# Altium schematic symbol library HW_ADHERENT_LANECTRL_R1.SchLib: 1635 symbols (part 1 of 31)
Pins are listed as number, name and electrical type; pins without a type are passive.

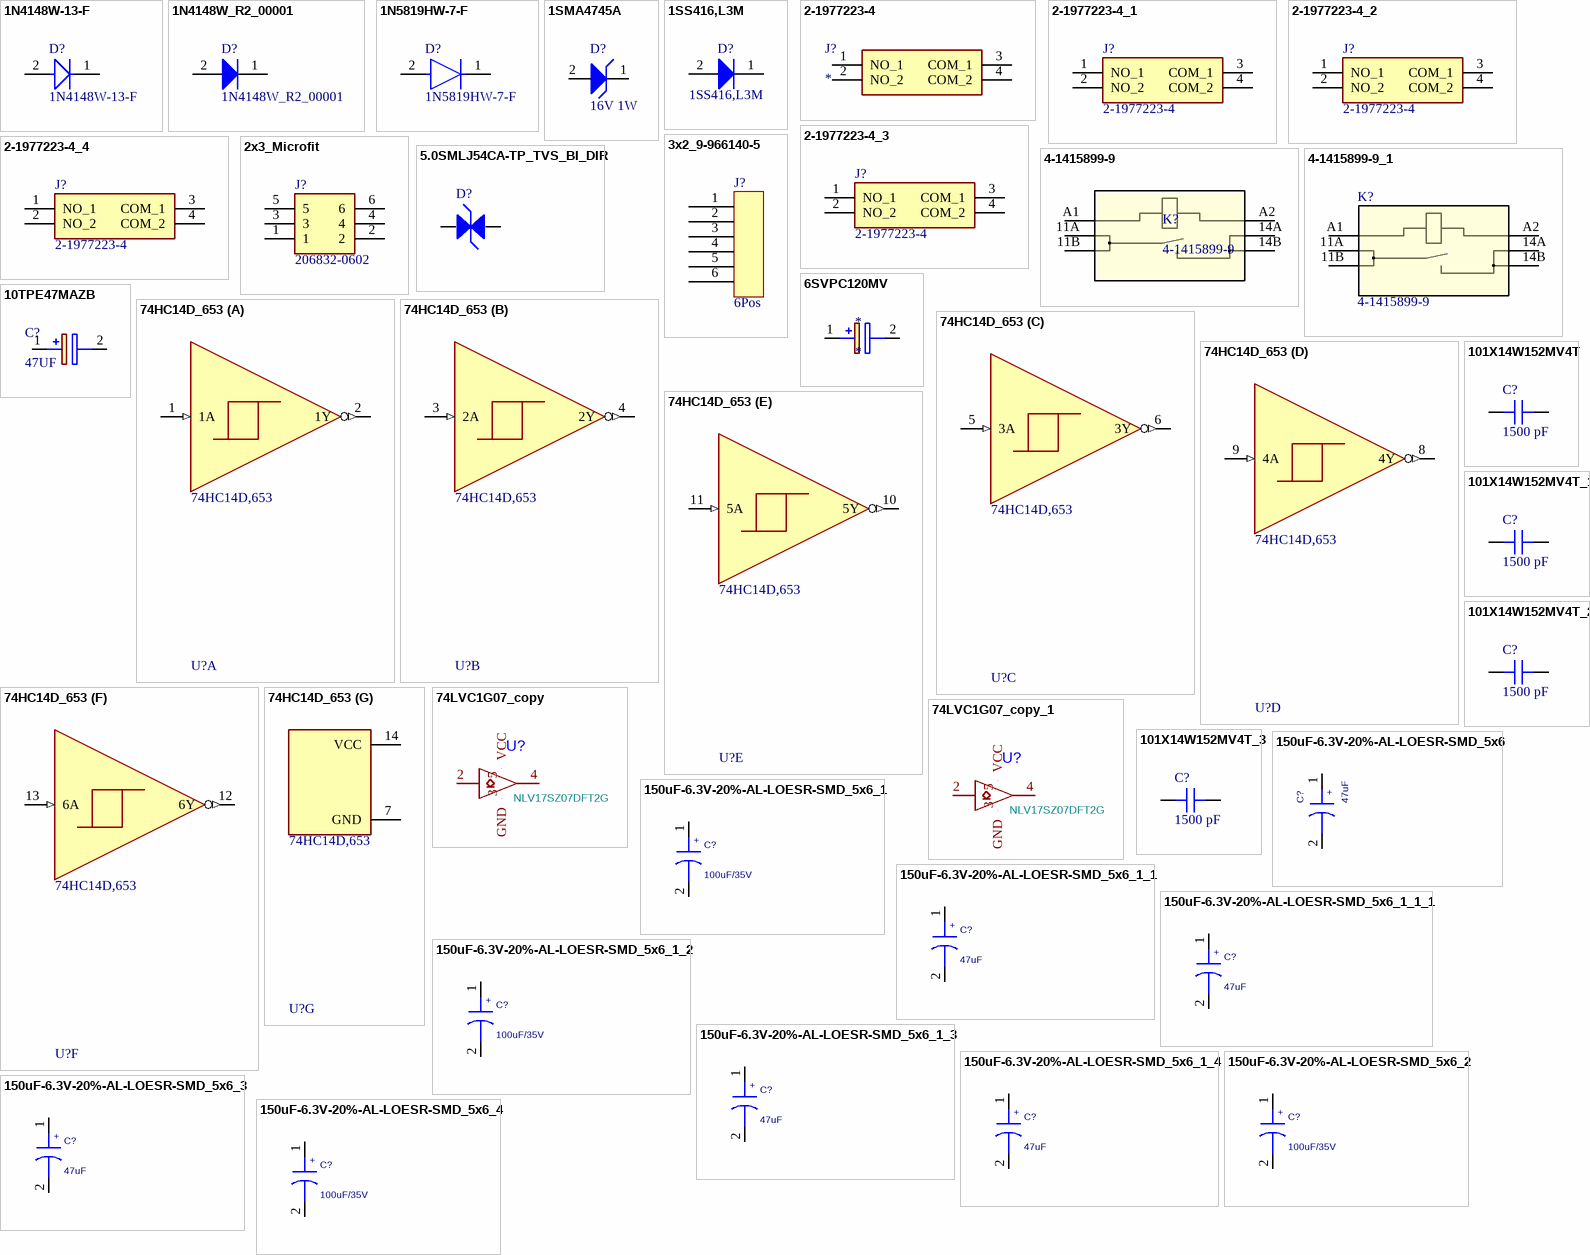
[diagram p0: symbols 1N4148W-13-F to 150uF-6.3V-20%-AL-LOESR-SMD_5x6_4]

## 1N4148W-13-F
designator D?, comment Manufacturer Part Number: 1N4148W-13-F  (hidden comment: DIODE GEN PURP 100V 300MA SOD123)
Diode Standard 100 V 300mA Surface Mount SOD-123; Order Code: Digi: 1N4148W-13FDITR-ND; LCSC Manufacturer Part Number: 1N4148W-13-F; LCSC Part Number: C112342
footprint Diodes_Inc._SOD123_IPC_C
pins: 1 C, 2 A

## 1N4148W_R2_00001
designator D?, comment Manufacturer Part Number: 1N4148W_R2_00001  (hidden comment: Diode 75 V 200mA Surface Mount SOD-123)
footprint SOD-123_L2.8-W1.8-LS3.7-RD
pins: 1 K, 2 A

## 1N5819HW-7-F
designator D?, comment Manufacturer Part Number: 1N5819HW-7-F  (hidden comment: DIODE SCHOTTKY 40V 1A SOD123)
Diode 40 V 1A Surface Mount SOD-123; Order Code: Digi: 1N5819HW-FDITR-ND; LCSC Manufacturer Part Number: 1N5819HW-7-F; LCSC Part Number: C82544
footprint Diodes_SOD123_IPC_A
footprint Diodes_SOD123_IPC_B
footprint Diodes_SOD123_IPC_C
footprint Diodes_SOD123_MFG
pins: 1 C, 2 A

## 1SMA4745A
designator D?, comment Voltage: 16V 1W  (hidden comment: ±5% Single 15.2V~16.8V 1W 16V SMA(DO-214AC) Zener Diodes ROHS)
Manufacturer Part Number: 1SMA4745A; Order Code: LCSC: C362282; LCSC Manufacturer Part Number: 1SMA4745A; LCSC Part Number: C362282
footprint DIOM5226X230N
pins: 1 K, 2 A

## 1SS416,L3M
designator D?
Diode 30 V 100mA Surface Mount SOD-923; LCSC Manufacturer Part Number: 1SS416,L3M(B; Order Code: Digi: 1SS416L3MTR-ND; LCSC Part Number: C2943683; Manufacturer Part Number: 1SS416,L3M
footprint SOD-923-2 (SOD, 2-Leads, Body 0.8x0.6mm)
pins: 1 K, 2 A

## 2-1977223-4
designator J?
Connector; Manufacturer_Name: TE Connectivity; Manufacturer_Part_Number: 2-1977223-4; Datasheet Link: https://www.mouser.pl/datasheet/2/418/8/ENG_CD_1977223_B2-757245.pdf; Height: 9.85mm; Mouser Part Number: 506-2-1977223-4; Mouser Price/Stock: https://www.mouser.co.uk/ProductDetail/TE-Connectivity-Alcoswitch/2-1977223-4?qs=WwRK9Mn48WApgvYrqfKzDA%3D%3D; Arrow Part Number: 2-1977223-4; Arrow Price/Stock: https://www.arrow.com/en/products/2-1977223-4/te-connectivity?region=europe
footprint 219772234
pins: 1 NO_1, 2 NO_2, 3 COM_1, 4 COM_2

## 2-1977223-4_1
designator J?, comment 2-1977223-4
Connector; Manufacturer_Name: TE Connectivity; Datasheet Link: https://www.mouser.pl/datasheet/2/418/8/ENG_CD_1977223_B2-757245.pdf; Height: 9.85mm; Manufacturer_Part_Number: 2-1977223-4; Mouser Part Number: 506-2-1977223-4; Mouser Price/Stock: https://www.mouser.co.uk/ProductDetail/TE-Connectivity-Alcoswitch/2-1977223-4?qs=WwRK9Mn48WApgvYrqfKzDA%3D%3D; Arrow Part Number: 2-1977223-4; Arrow Price/Stock: https://www.arrow.com/en/products/2-1977223-4/te-connectivity?region=europe
footprint 219772234
pins: 1 NO_1, 2 NO_2, 3 COM_1, 4 COM_2

## 2-1977223-4_2
designator J?, comment 2-1977223-4
Connector; Manufacturer_Name: TE Connectivity; Datasheet Link: https://www.mouser.pl/datasheet/2/418/8/ENG_CD_1977223_B2-757245.pdf; Height: 9.85mm; Manufacturer_Part_Number: 2-1977223-4; Mouser Part Number: 506-2-1977223-4; Mouser Price/Stock: https://www.mouser.co.uk/ProductDetail/TE-Connectivity-Alcoswitch/2-1977223-4?qs=WwRK9Mn48WApgvYrqfKzDA%3D%3D; Arrow Part Number: 2-1977223-4; Arrow Price/Stock: https://www.arrow.com/en/products/2-1977223-4/te-connectivity?region=europe
footprint 219772234
pins: 1 NO_1, 2 NO_2, 3 COM_1, 4 COM_2

## 2-1977223-4_3
designator J?, comment 2-1977223-4
Connector; Manufacturer_Name: TE Connectivity; Datasheet Link: https://www.mouser.pl/datasheet/2/418/8/ENG_CD_1977223_B2-757245.pdf; Height: 9.85mm; Manufacturer_Part_Number: 2-1977223-4; Mouser Part Number: 506-2-1977223-4; Mouser Price/Stock: https://www.mouser.co.uk/ProductDetail/TE-Connectivity-Alcoswitch/2-1977223-4?qs=WwRK9Mn48WApgvYrqfKzDA%3D%3D; Arrow Part Number: 2-1977223-4; Arrow Price/Stock: https://www.arrow.com/en/products/2-1977223-4/te-connectivity?region=europe
footprint 219772234
pins: 1 NO_1, 2 NO_2, 3 COM_1, 4 COM_2

## 2-1977223-4_4
designator J?, comment 2-1977223-4
Connector; Manufacturer_Name: TE Connectivity; Datasheet Link: https://www.mouser.pl/datasheet/2/418/8/ENG_CD_1977223_B2-757245.pdf; Height: 9.85mm; Manufacturer_Part_Number: 2-1977223-4; Mouser Part Number: 506-2-1977223-4; Mouser Price/Stock: https://www.mouser.co.uk/ProductDetail/TE-Connectivity-Alcoswitch/2-1977223-4?qs=WwRK9Mn48WApgvYrqfKzDA%3D%3D; Arrow Part Number: 2-1977223-4; Arrow Price/Stock: https://www.arrow.com/en/products/2-1977223-4/te-connectivity?region=europe
footprint 219772234
pins: 1 NO_1, 2 NO_2, 3 COM_1, 4 COM_2

## 2x3_Microfit
designator J?, comment 206832-0602
Headers & Wire Housings Micro-Fit+ Vert HDR 2X3 15AU; Manufacturer_Name: Molex; Geometry.Height: 10.16mm; Manufacturer Part Number: 206832-0602; Mouser Part Number: 538-206832-0602; Mouser Price/Stock: https://www.mouser.co.uk/ProductDetail/Molex/206832-0602?qs=OlC7AqGiEDlD1QNT%2FeqMtg%3D%3D; Arrow Part Number: *; Arrow Price/Stock: *; Datasheet Link: https://www.mouser.com/datasheet/2/276/2/2068320602_PCB_HEADERS-1912549.pdf
footprint 2068320602
pins: 1, 2, 3, 4, 5, 6

## 3x2_9-966140-5
designator J?, comment 6Pos
CONN HEADER R/A 6POS 5MM; P/N: 9-966140-5; Order Code: DIGI : A141422-ND; Value: 6Pos
footprint 9-966140-5
pins: 1, 2, 3, 4, 5, 6

## 4-1415899-9
designator K?
General Purpose Relay SPST-NO (1 Form A) 12VDC Coil Through Hole; Mfr_Name: TE Connectivity; RefDes: RefDes; Type: Type
footprint RELAY5_4-1415899-9_TEC
pins: 11A, 11B, 14A, 14B, A1, A2

## 4-1415899-9_1
designator K?, comment 4-1415899-9
General Purpose Relay SPST-NO (1 Form A) 12VDC Coil Through Hole; Mfr_Name: TE Connectivity; RefDes: RefDes; Type: Type
footprint RELAY5_4-1415899-9_TEC
pins: 11A, 11B, 14A, 14B, A1, A2

## 5.0SMLJ54CA-TP_TVS_BI_DIR
designator D?
TVS DIODE 54VWM 87.1VC SMC; P/N: 5.0SMLJ54CA-TP; Order Code: DIGI : 5.0SMLJ54CA-TPMSCT-ND
footprint DO214AB
pins: 1, 2

## 6SVPC120MV
designator *
Cap Aluminum Polymer 120uF 6.3VDC 20%( 5 X 5.9mm) SMD 0.021 Ohm 2660mA 2000h 105C T/R; Manufacturer: Panasonic; Manufacturer Part Number: 6SVPC120MV; Supplier 1: Digikey; RoHS: Yes; Category: Polymer Capacitors; Stock 1: 1500; Pricing 1: 1500=0.34245, 3000=0.32036, 4500=0.30379, 10500=0.29274, 15000=0.28788 (USD); Material: 4242ConductorMaterial; ComponentLink1URL: https://datasheet.ciiva.com/25767/1734358-25767646.pdf?src-supplier=Farnell; ComponentLink1Description: https://datasheet.ciiva.com/25767/1734358-25767646.pdf?src-supplier=Farnell; ComponentLink2URL: https://datasheet.ciiva.com/22746/1734358-22746299.pdf?src-supplier=Element14; ComponentLink2Description: https://datasheet.ciiva.com/22746/1734358-22746299.pdf?src-supplier=Element14; Supplier Part Number 1: P16608TR-ND
footprint 16SVF82M
pins: 1 +, 2 -

## 10TPE47MAZB
designator C?, comment 47UF
47 µF Molded Tantalum Polymer Capacitor 10 V 1411 (3528 Metric) 35mOhm @ 100kHz; Manufacturer_Name: Panasonic; Manufacturer_Part_Number: 10TPE47MAZB; Datasheet Link: http://industrial.panasonic.com/cdbs/www-data/pdf/AAA8000/AAA8000C36.pdf; Mouser Part Number: 667-10TPE47MAZB; Mouser Price/Stock: https://www.mouser.co.uk/ProductDetail/Panasonic/10TPE47MAZB?qs=OE1iw1LrrPFA5jtx2CbXHA%3D%3D; Arrow Part Number: 10TPE47MAZB; Arrow Price/Stock: https://www.arrow.com/en/products/10tpe47mazb/panasonic?utm_currency=USD&region=nac
footprint 16TDC33MYFB
pins: 1 +, 2 -

## 74HC14D_653
designator U?, comment Manufacturer Part Number: 74HC14D,653  (hidden comment: 6 21ns@6V,50pF 2uA 2V~6V SOIC-14 Inverters ROHS)
LCSC Part Number: C5605
footprint Nexperia_SOT108-1_IPC_C
part A pins: 1 1A (in), 2 1Y (out)
part B pins: 3 2A (in), 4 2Y (out)
part C pins: 5 3A (in), 6 3Y (out)
part D pins: 8 4Y (out), 9 4A (in)
part E pins: 10 5Y (out), 11 5A (in)
part F pins: 12 6Y (out), 13 6A (in)
part G pins: 7 GND (power), 14 VCC (power)

## 74LVC1G07_copy
designator U?, comment NLV17SZ07DFT2G
IC BUFFER NON-INVERT 5.5V SC88A; Manufacturer: onsemi; Footprint: Package_TO_SOT_SMD:SOT-353_SC-70-5; Manufacturer Part Number: NLV17SZ07DFT2G; Supplier Part Number: NLV17SZ07DFT2GOSCT-ND; Value: NLV17SZ07DFT2G
footprint SOT-353 (Footprint not found)
pins: 2, 3 GND, 4, 5 VCC

## 74LVC1G07_copy_1
designator U?, comment NLV17SZ07DFT2G
IC BUFFER NON-INVERT 5.5V SC88A; Manufacturer: onsemi; Footprint: Package_TO_SOT_SMD:SOT-353_SC-70-5; Manufacturer Part Number: NLV17SZ07DFT2G; Supplier Part Number: NLV17SZ07DFT2GOSCT-ND; Value: NLV17SZ07DFT2G
footprint SOT-353 (Footprint not found)
pins: 2, 3 GND, 4, 5 VCC

## 101X14W152MV4T
designator C?, comment 1500 pF
CAP CER 1500PF 100V X7R 0603; Part Number: 101X14W152MV4T; manufacturer: Johanson Dielectrics Inc.; Tolerance: ±20%; Applications: Bypass, Decoupling; Capacitance: 1500 pF; componentlink1description: Datasheet; componentlink1url: https://www.johansondielectrics.com/downloads/x2y-filter-and-decoupling-capacitors.pdf; componentlink2description: DigiKey Link; componentlink2url: https://www.digikey.com/en/products/detail/johanson-dielectrics-inc/101X14W152MV4T/2046908; Device Package: 0603 (1608 Metric); Features: Low ESL (X2Y); lastupdated: 2/9/2024 8:10:14 PM; Lifecycle Status: Active; Minimum Order: 1; Mounting Type: Surface Mount, MLCC; Operating Temperature: -55°C ~ 125°C; Package / Case: 0603 (1608 Metric); packaging: TapeAndReel; partid: 14409; Part Status: Active; price: 0.05; series: X2Y®; Size / Dimension: 0.064" L x 0.035" W (1.63mm x 0.89mm); Supplier 1: DigiKey; Supplier Part Number 1: 709-1205-1-ND; Temperature Coefficient: X7R; Thickness (Max): 0.026" (0.66mm); Voltage - Rated: 100V; Value: 1500 pF
footprint CAP 0603_1608
pins: 1, 2

## 101X14W152MV4T_1
designator C?, comment 1500 pF
CAP CER 1500PF 100V X7R 0603; Part Number: 101X14W152MV4T; manufacturer: Johanson Dielectrics Inc.; Tolerance: ±20%; Applications: Bypass, Decoupling; Capacitance: 1500 pF; componentlink1description: Datasheet; componentlink1url: https://www.johansondielectrics.com/downloads/x2y-filter-and-decoupling-capacitors.pdf; componentlink2description: DigiKey Link; componentlink2url: https://www.digikey.com/en/products/detail/johanson-dielectrics-inc/101X14W152MV4T/2046908; Device Package: 0603 (1608 Metric); Features: Low ESL (X2Y); lastupdated: 2/9/2024 8:10:14 PM; Lifecycle Status: Active; Minimum Order: 1; Mounting Type: Surface Mount, MLCC; Operating Temperature: -55°C ~ 125°C; Package / Case: 0603 (1608 Metric); packaging: TapeAndReel; partid: 14409; Part Status: Active; price: 0.05; series: X2Y®; Size / Dimension: 0.064" L x 0.035" W (1.63mm x 0.89mm); Supplier 1: DigiKey; Supplier Part Number 1: 709-1205-1-ND; Temperature Coefficient: X7R; Thickness (Max): 0.026" (0.66mm); Voltage - Rated: 100V; Value: 1500 pF
footprint CAP 0603_1608
pins: 1, 2

## 101X14W152MV4T_2
designator C?, comment 1500 pF
CAP CER 1500PF 100V X7R 0603; Part Number: 101X14W152MV4T; manufacturer: Johanson Dielectrics Inc.; Tolerance: ±20%; Applications: Bypass, Decoupling; Capacitance: 1500 pF; componentlink1description: Datasheet; componentlink1url: https://www.johansondielectrics.com/downloads/x2y-filter-and-decoupling-capacitors.pdf; componentlink2description: DigiKey Link; componentlink2url: https://www.digikey.com/en/products/detail/johanson-dielectrics-inc/101X14W152MV4T/2046908; Device Package: 0603 (1608 Metric); Features: Low ESL (X2Y); lastupdated: 2/9/2024 8:10:14 PM; Lifecycle Status: Active; Minimum Order: 1; Mounting Type: Surface Mount, MLCC; Operating Temperature: -55°C ~ 125°C; Package / Case: 0603 (1608 Metric); packaging: TapeAndReel; partid: 14409; Part Status: Active; price: 0.05; series: X2Y®; Size / Dimension: 0.064" L x 0.035" W (1.63mm x 0.89mm); Supplier 1: DigiKey; Supplier Part Number 1: 709-1205-1-ND; Temperature Coefficient: X7R; Thickness (Max): 0.026" (0.66mm); Voltage - Rated: 100V; Value: 1500 pF
footprint CAP 0603_1608
pins: 1, 2

## 101X14W152MV4T_3
designator C?, comment 1500 pF
CAP CER 1500PF 100V X7R 0603; Part Number: 101X14W152MV4T; manufacturer: Johanson Dielectrics Inc.; Tolerance: ±20%; Applications: Bypass, Decoupling; Capacitance: 1500 pF; componentlink1description: Datasheet; componentlink1url: https://www.johansondielectrics.com/downloads/x2y-filter-and-decoupling-capacitors.pdf; componentlink2description: DigiKey Link; componentlink2url: https://www.digikey.com/en/products/detail/johanson-dielectrics-inc/101X14W152MV4T/2046908; Device Package: 0603 (1608 Metric); Features: Low ESL (X2Y); lastupdated: 2/9/2024 8:10:14 PM; Lifecycle Status: Active; Minimum Order: 1; Mounting Type: Surface Mount, MLCC; Operating Temperature: -55°C ~ 125°C; Package / Case: 0603 (1608 Metric); packaging: TapeAndReel; partid: 14409; Part Status: Active; price: 0.05; series: X2Y®; Size / Dimension: 0.064" L x 0.035" W (1.63mm x 0.89mm); Supplier 1: DigiKey; Supplier Part Number 1: 709-1205-1-ND; Temperature Coefficient: X7R; Thickness (Max): 0.026" (0.66mm); Voltage - Rated: 100V; Value: 1500 pF
footprint CAP 0603_1608
pins: 1, 2

## 150uF-6.3V-20%-AL-LOESR-SMD_5x6
designator C?, comment 47uF
CAP ALUM 47UF 20% 50V SMD; Manufacturer: Panasonic Electronic Components; Manufacturer Part Number: EEE-FK1H470XP; Value: 47uF; Supplier Part Number: PCE3816CT-ND
footprint SMD 6.6x6.6x8.0mm
pins: 1, 2
text: +

## 150uF-6.3V-20%-AL-LOESR-SMD_5x6_1
designator C?, comment 100uF/35V
CAP ALUM POLY 100UF 20% 50V SMD; Manufacturer: Nichicon; Manufacturer Part Number: PCV1H101MCL2GS; Value: 100uF; Supplier Part Number: 493-4558-1-ND
footprint SMD 10.3x10.3x10.0mm (PN: UUX2A470MNL1GS)
pins: 1, 2
text: +

## 150uF-6.3V-20%-AL-LOESR-SMD_5x6_1_1
designator C?, comment 47uF
CAP ALUM 47UF 20% 50V SMD; Manufacturer: Panasonic Electronic Components; Manufacturer Part Number: EEE-FK1H470XP; Value: 47uF; Supplier Part Number: PCE3816CT-ND
footprint SMD 6.6x6.6x8.0mm
pins: 1, 2
text: +

## 150uF-6.3V-20%-AL-LOESR-SMD_5x6_1_1_1
designator C?, comment 47uF
CAP ALUM 47UF 20% 50V SMD; Manufacturer: Panasonic Electronic Components; Manufacturer Part Number: EEE-FK1H470XP; Value: 47uF; Supplier Part Number: PCE3816CT-ND
footprint SMD 6.6x6.6x8.0mm
pins: 1, 2
text: +

## 150uF-6.3V-20%-AL-LOESR-SMD_5x6_1_2
designator C?, comment 100uF/35V
CAP ALUM POLY 100UF 20% 50V SMD; Manufacturer: Nichicon; Manufacturer Part Number: PCV1H101MCL2GS; Value: 100uF; Supplier Part Number: 493-4558-1-ND
footprint SMD 10.3x10.3x10.0mm (PN: UUX2A470MNL1GS)
pins: 1, 2
text: +

## 150uF-6.3V-20%-AL-LOESR-SMD_5x6_1_3
designator C?, comment 47uF
CAP ALUM 47UF 20% 50V SMD; Manufacturer: Panasonic Electronic Components; Manufacturer Part Number: EEE-FK1H470XP; Value: 47uF; Supplier Part Number: PCE3816CT-ND
footprint SMD 6.6x6.6x8.0mm
pins: 1, 2
text: +

## 150uF-6.3V-20%-AL-LOESR-SMD_5x6_1_4
designator C?, comment 47uF
CAP ALUM 47UF 20% 50V SMD; Manufacturer: Panasonic Electronic Components; Manufacturer Part Number: EEE-FK1H470XP; Value: 47uF; Supplier Part Number: PCE3816CT-ND
footprint SMD 6.6x6.6x8.0mm
pins: 1, 2
text: +

## 150uF-6.3V-20%-AL-LOESR-SMD_5x6_2
designator C?, comment 100uF/35V
CAP ALUM POLY 100UF 20% 50V SMD; Manufacturer: Nichicon; Manufacturer Part Number: PCV1H101MCL2GS; Value: 100uF; Supplier Part Number: 493-4558-1-ND
footprint SMD 10.3x10.3x10.0mm (PN: UUX2A470MNL1GS)
pins: 1, 2
text: +

## 150uF-6.3V-20%-AL-LOESR-SMD_5x6_3
designator C?, comment 47uF
CAP ALUM 47UF 20% 50V SMD; Manufacturer: Panasonic Electronic Components; Manufacturer Part Number: EEE-FK1H470XP; Value: 47uF; Supplier Part Number: PCE3816CT-ND
footprint SMD 6.6x6.6x8.0mm
pins: 1, 2
text: +

## 150uF-6.3V-20%-AL-LOESR-SMD_5x6_4
designator C?, comment 100uF/35V
CAP ALUM POLY 100UF 20% 50V SMD; Manufacturer: Nichicon; Manufacturer Part Number: PCV1H101MCL2GS; Value: 100uF; Supplier Part Number: 493-4558-1-ND
footprint SMD 10.3x10.3x10.0mm (PN: UUX2A470MNL1GS)
pins: 1, 2
text: +

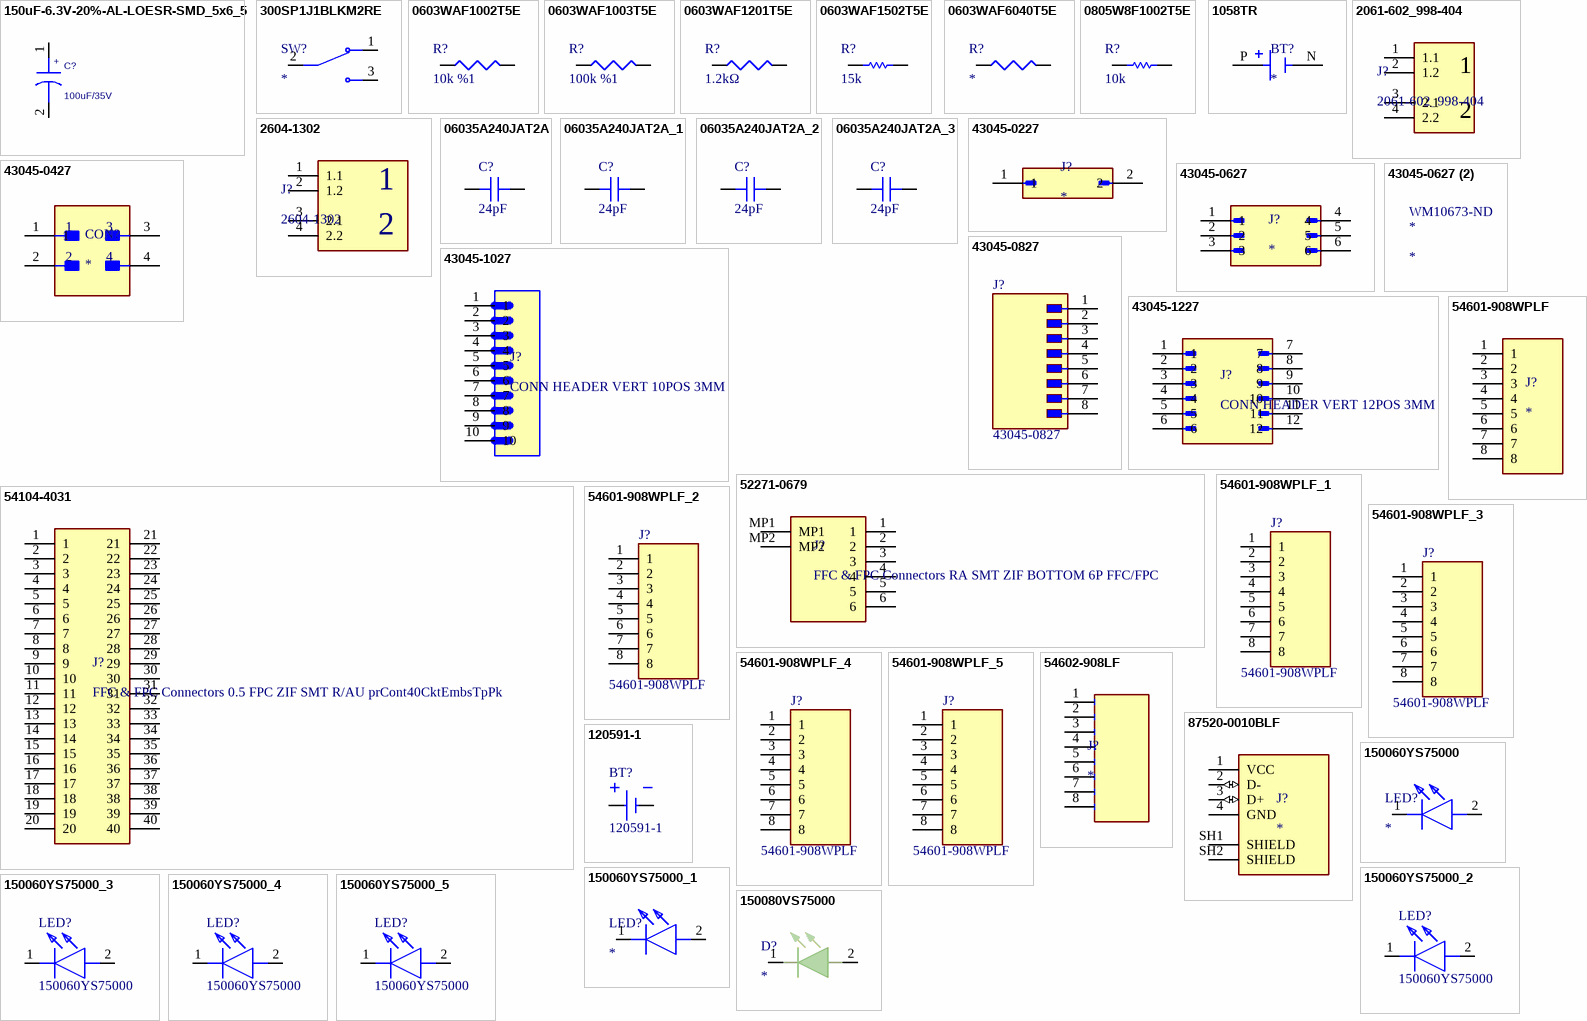
[diagram p1: symbols 150uF-6.3V-20%-AL-LOESR-SMD_5x6_5 to 150080VS75000]

## 150uF-6.3V-20%-AL-LOESR-SMD_5x6_5
designator C?, comment 100uF/35V
CAP ALUM POLY 100UF 20% 50V SMD; Manufacturer: Nichicon; Manufacturer Part Number: PCV1H101MCL2GS; Value: 100uF; Supplier Part Number: 493-4558-1-ND
footprint SMD 10.3x10.3x10.0mm (PN: UUX2A470MNL1GS)
pins: 1, 2
text: +

## 300SP1J1BLKM2RE
designator SW?
Rocker Switch SPDT 0.4VA (AC/DC) 20 V Through Hole; MPN: 300SP1J1BLKM2RE; Manufacturer: E-Switch; Supplier: Dıgı; EG4312-ND
footprint SW_300SP1J1BLKM2QE
footprint sw_300SP1J1BLKM2RE_
pins: 1, 2, 3

## 0603WAF1002T5E
designator R?, comment 10k %1
Thick Film Resistors - SMD 0603 100 mW (1/10 W) 1% 10K; Manufacturer: UNI-ROYAL(Uniroyal Elec); Supplier_JLCPCB: C25804; Supplier_MOUSER: 303-0603WAF1002T5E
footprint RESIS_0603
pins: 1, 2

## 0603WAF1003T5E
designator R?, comment 100k %1
-55℃~+155℃ 100kΩ 100mW 75V Thick Film Resistor ±1% ±100ppm/℃ 0603 Chip Resistor - Surface Mount ROHS; Manufacturer: UNI-ROYAL(Uniroyal Elec); Supplier_JLCPCB: C25803; Supplier_MOUSER: 303-0603WAF1003T5E
footprint RESIS_0603
pins: 1, 2

## 0603WAF1201T5E
designator R?, comment 1.2kΩ
-55℃~+155℃ 1.2kΩ 100mW 75V Thick Film Resistor ±1% ±100ppm/℃ 0603 Chip Resistor - Surface Mount ROHS; Manifacturer: UNI-ROYAL(Uniroyal Elec); JLCPCB PART#: C22765
footprint RES0603
pins: 1, 2

## 0603WAF1502T5E
designator R?, comment 15k
-55℃~+155℃ 100mW 15kΩ 75V Thick Film Resistor ±1% ±100ppm/℃ 0603 Chip Resistor - Surface Mount ROHS; Manufacturer: UNI-ROYAL(Uniroyal Elec); JLCPCB PART 3: C22809; Mouser Part Number: 303-0603WAF1502T5E
footprint RESIS_0603
pins: 1, 2

## 0603WAF6040T5E
designator R?
-55℃~+155℃ 100mW 604Ω 75V Thick Film Resistor ±1% ±100ppm/℃ 0603 Chip Resistor - Surface Mount ROHS
footprint RES0603
pins: 1, 2

## 0805W8F1002T5E
designator R?, comment 10k
-55℃~+155℃ 10kΩ 125mW 150V Thick Film Resistor ±1% ±100ppm/℃ 0805 Chip Resistor - Surface Mount ROHS; Manufacturer: UNI-ROYAL(Uniroyal Elec); JLCPCB PART#: C17414
footprint RES0805
pins: 1, 2

## 1058TR
designator BT?
MP: 1058TR; Package: None; Value: *; Price: None; Availability: Unavailable
footprint BAT_1058TR
pins: N NEG, P POS

## 2061-602_998-404
designator J?
SMD PCB TERMINAL BLOCK PUSH-BUTT; Manufacturer_Name: Wago; Manufacturer_Part_Number: 2061-602/998-404; Datasheet Link: https://www.wago.com/2061-602/998-404; Height: 5.6mm; Arrow Part Number: 2061-602/998-404; Arrow Price/Stock: https://www.arrow.com/en/products/2061-602998-404/wago-kontakttechnik-gmbh?utm_currency=USD&region=europe
footprint 2061602998404
pins: 1 1.1, 2 1.2, 3 2.1, 4 2.2

## 2604-1302
designator J?
2 Position Wire to Board Terminal Block Horizontal with Board 0.295" (7.50mm) Through Hole; Manufacturer_Name: Wago; Datasheet Link: https://wago.priintcloud.com/datasheets/2604-1302/en/b87bf34972496b0cc9989b5aee7282f1?attempt=1&signature=a98fe1495a23e3ec8acce2ba9ddca9e4_1h3rab99m; Manufacturer_Part_Number: 2604-1302; Arrow Part Number: 2604-1302; Arrow Price/Stock: https://www.arrow.com/en/products/2604-1302/wago-kontakttechnik-gmbh?utm_currency=USD&region=nac
footprint 26041302
pins: 1 1.1, 2 1.2, 3 2.1, 4 2.2

## 06035A240JAT2A
designator C?, comment 24pF
CAP CER 24PF 50V NP0 0603; Part Number: 06035A240JAT2A; manufacturer: AVX Corporation; Temperature Coefficient: C0G, NP0; Tolerance: ±5%; Applications: General Purpose; Capacitance: 24pF; componentlink1description: Datasheet; componentlink1url: http://datasheets.avx.com/C0GNP0-Dielectric.pdf; componentlink2description: DigiKey Link; componentlink2url: http://digikey.com/product-detail/en/avx-corporation/06035A240JAT2A/478-10304-1-ND/6797462; Device Package: 0603 (1608 Metric); lastupdated: 9/2/2020 1:03:04 AM; Lifecycle Status: Active; Minimum Order: 1; Mounting Type: Surface Mount, MLCC; Operating Temperature: -55°C ~ 125°C; Package / Case: 0603 (1608 Metric); packaging: TapeAndReel; partid: 17178; Part Status: Active; price: 0.02; series: -; Size / Dimension: 0.063" L x 0.032" W (1.60mm x 0.81mm); Supplier 1: DigiKey; Supplier Part Number 1: 478-10304-1-ND; Thickness (Max): 0.035" (0.90mm); Voltage - Rated: 50V; Value: 24pF
footprint CAP 0603_1608
pins: 1, 2

## 06035A240JAT2A_1
designator C?, comment 24pF
CAP CER 24PF 50V NP0 0603; Part Number: 06035A240JAT2A; manufacturer: AVX Corporation; Temperature Coefficient: C0G, NP0; Tolerance: ±5%; Applications: General Purpose; Capacitance: 24pF; componentlink1description: Datasheet; componentlink1url: http://datasheets.avx.com/C0GNP0-Dielectric.pdf; componentlink2description: DigiKey Link; componentlink2url: http://digikey.com/product-detail/en/avx-corporation/06035A240JAT2A/478-10304-1-ND/6797462; Device Package: 0603 (1608 Metric); lastupdated: 9/2/2020 1:03:04 AM; Lifecycle Status: Active; Minimum Order: 1; Mounting Type: Surface Mount, MLCC; Operating Temperature: -55°C ~ 125°C; Package / Case: 0603 (1608 Metric); packaging: TapeAndReel; partid: 17178; Part Status: Active; price: 0.02; series: -; Size / Dimension: 0.063" L x 0.032" W (1.60mm x 0.81mm); Supplier 1: DigiKey; Supplier Part Number 1: 478-10304-1-ND; Thickness (Max): 0.035" (0.90mm); Voltage - Rated: 50V; Value: 24pF
footprint CAP 0603_1608
pins: 1, 2

## 06035A240JAT2A_2
designator C?, comment 24pF
CAP CER 24PF 50V NP0 0603; Part Number: 06035A240JAT2A; manufacturer: AVX Corporation; Temperature Coefficient: C0G, NP0; Tolerance: ±5%; Applications: General Purpose; Capacitance: 24pF; componentlink1description: Datasheet; componentlink1url: http://datasheets.avx.com/C0GNP0-Dielectric.pdf; componentlink2description: DigiKey Link; componentlink2url: http://digikey.com/product-detail/en/avx-corporation/06035A240JAT2A/478-10304-1-ND/6797462; Device Package: 0603 (1608 Metric); lastupdated: 9/2/2020 1:03:04 AM; Lifecycle Status: Active; Minimum Order: 1; Mounting Type: Surface Mount, MLCC; Operating Temperature: -55°C ~ 125°C; Package / Case: 0603 (1608 Metric); packaging: TapeAndReel; partid: 17178; Part Status: Active; price: 0.02; series: -; Size / Dimension: 0.063" L x 0.032" W (1.60mm x 0.81mm); Supplier 1: DigiKey; Supplier Part Number 1: 478-10304-1-ND; Thickness (Max): 0.035" (0.90mm); Voltage - Rated: 50V; Value: 24pF
footprint CAP 0603_1608
pins: 1, 2

## 06035A240JAT2A_3
designator C?, comment 24pF
CAP CER 24PF 50V NP0 0603; Part Number: 06035A240JAT2A; manufacturer: AVX Corporation; Temperature Coefficient: C0G, NP0; Tolerance: ±5%; Applications: General Purpose; Capacitance: 24pF; componentlink1description: Datasheet; componentlink1url: http://datasheets.avx.com/C0GNP0-Dielectric.pdf; componentlink2description: DigiKey Link; componentlink2url: http://digikey.com/product-detail/en/avx-corporation/06035A240JAT2A/478-10304-1-ND/6797462; Device Package: 0603 (1608 Metric); lastupdated: 9/2/2020 1:03:04 AM; Lifecycle Status: Active; Minimum Order: 1; Mounting Type: Surface Mount, MLCC; Operating Temperature: -55°C ~ 125°C; Package / Case: 0603 (1608 Metric); packaging: TapeAndReel; partid: 17178; Part Status: Active; price: 0.02; series: -; Size / Dimension: 0.063" L x 0.032" W (1.60mm x 0.81mm); Supplier 1: DigiKey; Supplier Part Number 1: 478-10304-1-ND; Thickness (Max): 0.035" (0.90mm); Voltage - Rated: 50V; Value: 24pF
footprint CAP 0603_1608
pins: 1, 2

## 43045-0227
designator J?
Conn Wire to Board HDR 2Power POS Solder ST Top Entry Thru-Hole Micro-Fit 3.0 Tray; Manufacturer: Molex; Manufacturer Part Number: 43045-0227; Number of Positions: 2; Gender: Male; Contact Resistance: 10mR; Max Voltage Rating (DC): 250.25kV; Current Rating: 5A; Voltage Rating: 600V; Number of Ports: 1; Pitch: 3mm; Glow Wire Compliant: Compliant; Supplier 1: Digikey; RoHS: Yes; Category: Headers and Wire Housings; Stock 1: 14826; Pricing 1: 1=1.03, 10=0.853, 80=0.711, 945=0.56884, 2400=0.5155 (USD); Mount: Through Hole; Contact Plating: Tin; Contact Material: Brass; Housing Color: Black; Housing Material: Thermoplastic; Min Operating Temperature: -40°C; Max Operating Temperature: 105°C; Number of Rows: 2; Packaging: Tray; Termination: Solder; Number of Contacts: 2; Orientation: Vertical; Series: 43045; Package Quantity: 3168; Number of Circuits: 2; Length: 7.15mm; Depth: 8.77mm; Row Spacing: 3mm; RoHS Compliant: Yes; Halogen Free: Low Halogen; Supplier Part Number 1: WM10657-ND
footprint MOLEX_430450227
pins: 1, 2

## 43045-0427
designator CON?
Conn Header 4 POS 3mm Solder ST Thru-Hole 4 Terminal 1 Port Micro-Fit 3.0 Tray; Manufacturer: Molex; Manufacturer Part Number: 43045-0427; Current Rating: 5A; Voltage Rating: 600V; Number of Positions: 4; Glow Wire Compliant: Compliant; Supplier 1: Digikey; RoHS: Yes; Category: Headers and Wire Housings; Stock 1: 1608; Pricing 1: 1=1.53, 10=1.303, 80=1.0765, 2232=0.82159, 4464=0.79325 (USD); Mount: Through Hole; Contact Plating: Tin; Contact Material: Brass; Housing Material: Thermoplastic; Min Operating Temperature: -40°C; Max Operating Temperature: 105°C; Number of Rows: 2; Packaging: Tray; Package Quantity: 2232; Termination: Solder; Number of Contacts: 4; Orientation: Vertical; Number of Circuits: 4; Series: 43045; Pitch: 3mm; Row Spacing: 3mm; Radiation Hardening: No; Reach SVHC Compliant: No; Halogen Free: Low Halogen; RoHS Compliant: Yes; Supplier Part Number 1: WM10667-ND
footprint MOLEX_0430450427
pins: 1, 2, 3, 4

## 43045-0627
designator J?
Conn Wire to Board HDR 6 POS 3mm Solder ST Thru-Hole Micro-Fit 3.0™ Tray; Manufacturer: Molex; Manufacturer Part Number: 43045-0627; Current Rating: 5A; Voltage Rating: 250V; Contact Resistance: 10mR; Max Voltage Rating (DC): 250.25kV; Number of Positions: 6; Gender: Male; Glow Wire Compliant: Compliant; Supplier 1: Digikey; RoHS: Yes; Category: Headers and Wire Housings; Stock 1: 9980; Pricing 1: 1=1.19, 10=0.983, 80=0.81888, 1728=0.61417, 3456=0.5937 (USD); Mount: Through Hole; Contact Plating: Tin; Contact Material: Brass; Housing Material: Thermoplastic; Min Operating Temperature: -40°C; Max Operating Temperature: 105°C; Number of Rows: 2; Package Quantity: 1728; Packaging: Tray; Termination: Solder; Number of Contacts: 6; Orientation: Vertical; Number of Circuits: 6; Series: 43045; Pitch: 3mm; Row Spacing: 3mm; Reach SVHC Compliant: No; Halogen Free: Low Halogen; RoHS Compliant: Yes; Supplier Part Number 1: WM10673-ND
footprint MOLEX_430450627
pins: 1, 2, 3, 4, 5, 6

## 43045-0627 (2)
designator *  Supplier Part Number 1: WM10673-ND
Conn Wire to Board HDR 6 POS 3mm Solder ST Thru-Hole Micro-Fit 3.0™ Tray; Manufacturer: Molex; Manufacturer Part Number: 43045-0627; Current Rating: 5A; Voltage Rating: 250V; Contact Resistance: 10mR; Max Voltage Rating (DC): 250.25kV; Number of Positions: 6; Gender: Male; Glow Wire Compliant: Compliant; Supplier 1: Digikey; RoHS: Yes; Category: Headers and Wire Housings; Stock 1: 6566; Pricing 1: 1=1.19, 10=0.983, 80=0.81888, 1728=0.61417, 3456=0.5937 (USD); Mount: Through Hole; Contact Plating: Tin; Contact Material: Brass; Housing Material: Thermoplastic; Min Operating Temperature: -40°C; Max Operating Temperature: 105°C; Number of Rows: 2; Package Quantity: 1728; Packaging: Tray; Termination: Solder; Number of Contacts: 6; Orientation: Vertical; Number of Circuits: 6; Series: 43045; Pitch: 3mm; Row Spacing: 3mm; Reach SVHC Compliant: No; Halogen Free: Low Halogen; RoHS Compliant: Yes

## 43045-0827
designator J?
Micro-Fit 3.0 Vertical Header, 3.00mm Pitch, Dual Row, 8 Circuits, with PCB Polarizing Peg; Manufacturer_Name: Molex; Geometry.Height: 9.91mm; Manufacturer_Part_Number: 43045-0827; Mouser Part Number: 538-43045-0827; Mouser Price/Stock: https://www.mouser.co.uk/ProductDetail/Molex/43045-0827?qs=q2qgWaULaqZ1Jeuw2khyfQ%3D%3D; Arrow Part Number: *; Arrow Price/Stock: *; Datasheet Link: https://www.molex.com/pdm_docs/sd/430450227_sd.pdf
footprint 43045-08YY_272829
pins: 1, 2, 3, 4, 5, 6, 7, 8

## 43045-1027
designator J?, comment CONN HEADER VERT 10POS 3MM
Micro-Fit 3.0 Through Hole PCB Header, Vertical, 10 Contacts, 2 Rows, 3mm Pitch; Manufacturer: Molex; Manufacturer Part Number: 43045-1027; Plating: 154ConductorMaterial; Number of Contacts: 10; Current Rating: 5A; Voltage Rating: 600V; Contact Resistance: 10mR; Max Voltage Rating (DC): 250.25kV; Insulation Resistance: 1GR; Voltage Rating (DC): 250V; Supplier 1: Digikey; RoHS: Yes; Category: Headers and Wire Housings; Stock 1: 50873; Pricing 1: 1=2.56, 10=2.249, 80=1.78925, 1224=1.48252, 6120=1.32915 (USD); Mount: Through Hole; Contact Plating: Tin; Contact Material: Brass; Housing Material: Thermoplastic; Min Operating Temperature: -40°C; Max Operating Temperature: 105°C; Number of Rows: 2; Termination: Through Hole; Packaging: Tray; Package Quantity: 1224; Number of Positions: 10; Orientation: Vertical; Number of Circuits: 10; Series: 43045; Pitch: 3mm; Row Spacing: 3mm; RoHS Compliant: Yes; Reach SVHC Compliant: Unknown; ComponentLink1URL: https://datasheet.ciiva.com/7810/1309046-7810273.pdf?src-supplier=Element14; ComponentLink1Description: https://datasheet.ciiva.com/7810/1309046-7810273.pdf?src-supplier=Element14; ComponentLink2URL: https://datasheet.ciiva.com/16103/319290430451027-pcb-headers-16103374.pdf?src-supplier=Onlinecomponents.com; ComponentLink2Description: https://datasheet.ciiva.com/16103/319290430451027-pcb-headers-16103374.pdf?src-supplier=Onlinecomponents.com; Supplier Part Number 1: WM7488-ND
footprint MOLEX_0430451027
pins: 1, 2, 3, 4, 5, 6, 7, 8, 9, 10

## 43045-1227
designator J?, comment CONN HEADER VERT 12POS 3MM
Conn Power HDR 12 POS 3mm Solder ST Thru-Hole 12 Terminal 1 Port Micro-Fit 3.0™ Frame; Manufacturer: Molex; Manufacturer Part Number: 43045-1227; Current Rating: 5A; Voltage Rating: 600V; Number of Positions: 12; Gender: Male; Glow Wire Compliant: Compliant; Supplier 1: Digikey; RoHS: Yes; Category: Headers and Wire Housings; Stock 1: 5235; Pricing 1: 1=2.93, 10=2.578, 80=2.05088, 1008=1.69926, 3024=1.58207 (USD); Contact Plating: Tin; Contact Material: Brass; Housing Material: Thermoplastic; Number of Rows: 2; Packaging: Tray; Package Quantity: 1008; Termination: Through Hole; Number of Contacts: 12; Orientation: Vertical; Number of Circuits: 12; Series: 43045; Pitch: 3mm; Row Spacing: 3mm; Halogen Free: Low Halogen; RoHS Compliant: Yes; ComponentLink1URL: https://datasheet.ciiva.com/13676/0430451227-pcb-headers-143012-13676689.pdf?src-supplier=Mouser; ComponentLink1Description: https://datasheet.ciiva.com/13676/0430451227-pcb-headers-143012-13676689.pdf?src-supplier=Mouser; ComponentLink2URL: https://datasheet.ciiva.com/7814/1629779-7814795.pdf?src-supplier=Element14; ComponentLink2Description: https://datasheet.ciiva.com/7814/1629779-7814795.pdf?src-supplier=Element14; Supplier Part Number 1: WM10697-ND
footprint MOLEX_430451227
pins: 1, 2, 3, 4, 5, 6, 7, 8, 9, 10, 11, 12

## 52271-0679
designator J?, comment FFC & FPC Connectors RA SMT ZIF BOTTOM 6P FFC/FPC
FFC/FPC SMT SER 1mm Pitch 6Way RightAngle SMT Female FPC Conn; ZIF Bottom Contact; Manufacturer: Molex; Manufacturer Part Number: 52271-0679; Supplier 1: Mouser; RoHS: Yes; Category: FFC / FPC; Stock 1: 7632; Pricing 1: 1=1,1, 10=0,906, 50=0,906, 100=0,755, 1000=0,604, 10000=0,491 (USD); ComponentLink1URL: https://datasheet.ciiva.com/27051/1301235-27051913.pdf?src-supplier=Jameco; ComponentLink1Description: https://datasheet.ciiva.com/27051/1301235-27051913.pdf?src-supplier=Jameco; ComponentLink2URL: https://datasheet.ciiva.com/5136/0522710679-ffc-fpc-connectors-149405-5136769.pdf?src-supplier=Mouser; ComponentLink2Description: https://datasheet.ciiva.com/5136/0522710679-ffc-fpc-connectors-149405-5136769.pdf?src-supplier=Mouser; ComponentLink3URL: https://datasheet.ciiva.com/30226/212340522710679-ffc-fpc-nectors-30226867.pdf?src-supplier=Onlinecomponents.com; ComponentLink3Description: https://datasheet.ciiva.com/30226/212340522710679-ffc-fpc-nectors-30226867.pdf?src-supplier=Onlinecomponents.com; ComponentLink4URL: https://datasheet.ciiva.com/10034/0522710679-ffc-fpc-connectors-10034899.pdf?src-supplier=Avnet; ComponentLink4Description: https://datasheet.ciiva.com/10034/0522710679-ffc-fpc-connectors-10034899.pdf?src-supplier=Avnet; ComponentLink5URL: https://datasheet.ciiva.com/16123/203510522710679-ffc-fpc-nectors-16123334.pdf?src-supplier=Onlinecomponents.com; ComponentLink5Description: https://datasheet.ciiva.com/16123/203510522710679-ffc-fpc-nectors-16123334.pdf?src-supplier=Onlinecomponents.com; ComponentLink6URL: https://datasheet.ciiva.com/8038/704159-8038352.pdf?src-supplier=Element14; ComponentLink6Description: https://datasheet.ciiva.com/8038/704159-8038352.pdf?src-supplier=Element14; ComponentLink7URL: https://datasheet.ciiva.com/11745/0900766b8078fc42-11745220.pdf?src-supplier=Rs; ComponentLink7Description: https://datasheet.ciiva.com/11745/0900766b8078fc42-11745220.pdf?src-supplier=Rs; ComponentLink8URL: https://datasheet.ciiva.com/14483/704159-14483351.pdf?src-supplier=Farnell; ComponentLink8Description: https://datasheet.ciiva.com/14483/704159-14483351.pdf?src-supplier=Farnell; Supplier Part Number 1: 538-52271-0679
footprint 522710679
pins: 1, 2, 3, 4, 5, 6, MP1, MP2

## 54104-4031
designator J?, comment FFC & FPC Connectors 0.5 FPC ZIF SMT R/AU prCont40CktEmbsTpPk
Conn FFC/FPC Connector SKT 40 POS 0.5mm Solder RA SMD Easy-On™ T/R; Manufacturer: Molex; Manufacturer Part Number: 54104-4031; Actuator Material: Glass,Polyphenylene; Actuator Color: Brown; Plating: 157ConductorMaterial; Number of Contacts: 40; Voltage Rating: 50V; Contact Resistance: 20mR; Current Rating: 500mA; Wire/Cable Type: Straight; Mating Cycles: 20; Contact Location: Top; Gender: Receptacle; Number of Circuits: 40NUMBER; Stackable: 5898YesNo; Supplier 1: Mouser; RoHS: Yes; Category: FFC / FPC; Stock 1: 10870; Pricing 1: 1=3,22, 10=2,84, 50=2,84, 100=2,03, 1000=2,03, 10000=1,76 (USD); Mount: Surface Mount; Contact Material: Bronze; Contact Plating: Unplated,Gold; Housing Color: Natural; Housing Material: Nylon; Material: 150ConductorMaterial; Min Operating Temperature: -20°C; Max Operating Temperature: 85°C; Number of Rows: 1; Termination: Solder; Orientation: Right Angle; Packaging: Tape and Reel; Package Quantity: 1500; Number of Positions: 40; Series: 54104; Length: 25.5mm; Pitch: 0.5mm; Depth: 5.6mm; Radiation Hardening: No; Flammability Rating: UL94 V-0; RoHS Compliant: Yes; Reach SVHC Compliant: Unknown; ELV: 5681ELVCompliant; Supplier Part Number 1: 538-54104-4031
footprint 54104-4031
pins: 1, 2, 3, 4, 5, 6, 7, 8, 9, 10, 11, 12, 13, 14, 15, 16, 17, 18, 19, 20, 21, 22, 23, 24, 25, 26, 27, 28, 29, 30, 31, 32, 33, 34, 35, 36, 37, 38, 39, 40

## 54601-908WPLF
designator J?
MF: Amphenol ICC; MP: 54601-908WPLF; Package: None; Price: None; Value: *; Availability: Unavailable
footprint AMPHENOL_54601-908WPLF
pins: 1, 2, 3, 4, 5, 6, 7, 8

## 54601-908WPLF_1
designator J?, comment 54601-908WPLF
MF: Amphenol ICC; Package: None; Price: None; Value: *; MP: 54601-908WPLF; Availability: Unavailable
footprint AMPHENOL_54601-908WPLF
pins: 1, 2, 3, 4, 5, 6, 7, 8

## 54601-908WPLF_2
designator J?, comment 54601-908WPLF
MF: Amphenol ICC; Package: None; Price: None; Value: *; MP: 54601-908WPLF; Availability: Unavailable
footprint AMPHENOL_54601-908WPLF
pins: 1, 2, 3, 4, 5, 6, 7, 8

## 54601-908WPLF_3
designator J?, comment 54601-908WPLF
MF: Amphenol ICC; Package: None; Price: None; Value: *; MP: 54601-908WPLF; Availability: Unavailable
footprint AMPHENOL_54601-908WPLF
pins: 1, 2, 3, 4, 5, 6, 7, 8

## 54601-908WPLF_4
designator J?, comment 54601-908WPLF
MF: Amphenol ICC; Package: None; Price: None; Value: *; MP: 54601-908WPLF; Availability: Unavailable
footprint AMPHENOL_54601-908WPLF
pins: 1, 2, 3, 4, 5, 6, 7, 8

## 54601-908WPLF_5
designator J?, comment 54601-908WPLF
MF: Amphenol ICC; Package: None; Price: None; Value: *; MP: 54601-908WPLF; Availability: Unavailable
footprint AMPHENOL_54601-908WPLF
pins: 1, 2, 3, 4, 5, 6, 7, 8

## 54602-908LF
designator J?
Modular Jack, Input Output Connectors, Cat 3 Single Modular Jack, Horizontal, Board Through Mount, 8P8C, 1 Port; MF: Amphenol ICC; MP: 54602-908LF; Package: None; Price: None; Check_prices: https://www.snapeda.com/parts/54602-908LF/Amphenol+FCI/view-part/?ref=eda; Value: *; SnapEDA_Link: https://www.snapeda.com/parts/54602-908LF/Amphenol+FCI/view-part/?ref=snap; Availability: In Stock; Purchase-URL: https://pricing.snapeda.com/search?q=54602-908LF&ref=eda
footprint AMPHENOL_54602-908LF
pins: 1, 2, 3, 4, 5, 6, 7, 8

## 87520-0010BLF
designator J?
USB 2.0, Input Output Connector, USB Type A, Standard, Right Angle, Through Hole, Single Decks, 4 Positions; Manufacturer: Amphenol ICC / FCI; Manufacturer Part Number: 87520-0010BLF; Supplier 1: Digikey; RoHS: No; Category: USB Connectors; Stock 1: 17622; Pricing 1: 1=0.95, 10=0.806, 42=0.7569, 84=0.72393, 252=0.65813, 504=0.5923, 1008=0.52649, 2520=0.47713 (USD); ComponentLink1URL: https://datasheet.octopart.com/87520-0010BLF-Areva-datasheet-144648.pdf?src-supplier=Digikey; ComponentLink1Description: https://datasheet.octopart.com/87520-0010BLF-Areva-datasheet-144648.pdf?src-supplier=Digikey; ComponentLink2URL: https://datasheet.octopart.com/87520-0010BLF-Areva-datasheet-154125.pdf?src-supplier=Mouser; ComponentLink2Description: https://datasheet.octopart.com/87520-0010BLF-Areva-datasheet-154125.pdf?src-supplier=Mouser; ComponentLink3URL: https://datasheet.octopart.com/87520-0010BLF-Amphenol-Communications-Solutions-datasheet-13707174.pdf?src-supplier=Farnell; ComponentLink3Description: https://datasheet.octopart.com/87520-0010BLF-Amphenol-Communications-Solutions-datasheet-13707174.pdf?src-supplier=Farnell; ComponentLink4URL: https://datasheet.octopart.com/87520-0010BLF-Areva-datasheet-21380287.pdf?src-supplier=Element14; ComponentLink4Description: https://datasheet.octopart.com/87520-0010BLF-Areva-datasheet-21380287.pdf?src-supplier=Element14; ComponentLink5URL: https://datasheet.octopart.com/87520-0010BLF-Areva-datasheet-10049120.pdf?src-supplier=Newark; ComponentLink5Description: https://datasheet.octopart.com/87520-0010BLF-Areva-datasheet-10049120.pdf?src-supplier=Newark; ComponentLink6URL: https://datasheet.octopart.com/87520-0010BLF-Amphenol-Communications-Solutions-datasheet-168215140.pdf?src-supplier=TME; ComponentLink6Description: https://datasheet.octopart.com/87520-0010BLF-Amphenol-Communications-Solutions-datasheet-168215140.pdf?src-supplier=TME; ComponentLink7URL: https://datasheet.octopart.com/87520-0010BLF-Amphenol-Communications-Solutions-datasheet-100449257.pdf?src-supplier=Electro+Sonic; ComponentLink7Description: https://datasheet.octopart.com/87520-0010BLF-Amphenol-Communications-Solutions-datasheet-100449257.pdf?src-supplier=Electro+Sonic; Supplier Part Number 1: 609-1045-ND
footprint AMPHENOL_87520-0010BLF
pins: 1 VCC (power), 2 D- (io), 3 D+ (io), 4 GND, SH1 SHIELD, SH2 SHIELD

## 120591-1
designator BT?
Lithium Battery Holder for CR2032 3V Cell; Manufacturer: TE Connectivity; ItemHRID: CMP-0438-00001; RevisionId: 1; Packing Type: Tray; Folder: Unified Components\Components\TE Connectivity\Connectors & Connector Components\Power Products\Battery Interconnection Products\; Body Shape: Horizontal Cylindrical; ContentType: Unified Component; AccessRights: 2147483647; PartNumber: 120591-1; ComponentLink1Description: Manufacturer URL; ComponentLink2Description: Datasheet; DatasheetVersion: Rev. H, 01/2013; ComponentLink1URL: http://www.te.com/; LifeCycleStateGUID: 61E382EE-6656-4F12-9E24-BE9327104A25; ReleaseDate: 20/08/2013 02:50:22 AM; ContentTypeGUID: CB3C11C4-E317-11DF-B822-12313F0024A2; ComponentLink2URL: http://www.te.com/commerce/DocumentDelivery/DDEController?Action=showdoc&DocId=Customer+Drawing%7F120591%7FH%7Fpdf%7FEnglish%7FENG_CD_120591_H.pdf%7F120591-1; LifeCycle: Released; FolderGUID: A6761B51-D489-48A3-9180-F4808F45AB79; ItemGUID: B2C50140-681E-4F62-8DBB-9728605318CE; Mounting Technology: Through Hole; PackageReference: 120591-1; PackageDescription: Lithium Battery Holder
footprint TECO-120591-1-2_V
pins: 1 +, 2 -

## 150060YS75000
designator LED?
LED; Manufacturer_Name: Wurth Elektronik; Manufacturer_Part_Number: 150060YS75000; Datasheet Link: http://uk.rs-online.com/web/p/products/8154219; Height: 0.8mm; Mouser Part Number: 710-150060YS75000; Mouser Price/Stock: https://www.mouser.co.uk/ProductDetail/Wurth-Elektronik/150060YS75000?qs=LlUlMxKIyB0nKmwefHgtZw%3D%3D
footprint LEDC1608X80N
pins: 1 K, 2 A

## 150060YS75000_1
designator LED?
LED; Manufacturer_Name: Wurth Elektronik; Manufacturer_Part_Number: 150060YS75000; Datasheet Link: http://uk.rs-online.com/web/p/products/8154219; Height: 0.8mm; Mouser Part Number: 710-150060YS75000; Mouser Price/Stock: https://www.mouser.co.uk/ProductDetail/Wurth-Elektronik/150060YS75000?qs=LlUlMxKIyB0nKmwefHgtZw%3D%3D
footprint LEDC1608X80N
pins: 1 K, 2 A

## 150060YS75000_2
designator LED?, comment 150060YS75000
LED; Manufacturer_Name: Wurth Elektronik; Datasheet Link: http://uk.rs-online.com/web/p/products/8154219; Height: 0.8mm; Manufacturer_Part_Number: 150060YS75000; Mouser Part Number: 710-150060YS75000; Mouser Price/Stock: https://www.mouser.co.uk/ProductDetail/Wurth-Elektronik/150060YS75000?qs=LlUlMxKIyB0nKmwefHgtZw%3D%3D
footprint LEDC1608X80N
pins: 1 K, 2 A

## 150060YS75000_3
designator LED?, comment 150060YS75000
LED; Manufacturer_Name: Wurth Elektronik; Datasheet Link: http://uk.rs-online.com/web/p/products/8154219; Height: 0.8mm; Manufacturer_Part_Number: 150060YS75000; Mouser Part Number: 710-150060YS75000; Mouser Price/Stock: https://www.mouser.co.uk/ProductDetail/Wurth-Elektronik/150060YS75000?qs=LlUlMxKIyB0nKmwefHgtZw%3D%3D
footprint LEDC1608X80N
pins: 1 K, 2 A

## 150060YS75000_4
designator LED?, comment 150060YS75000
LED; Manufacturer_Name: Wurth Elektronik; Datasheet Link: http://uk.rs-online.com/web/p/products/8154219; Height: 0.8mm; Manufacturer_Part_Number: 150060YS75000; Mouser Part Number: 710-150060YS75000; Mouser Price/Stock: https://www.mouser.co.uk/ProductDetail/Wurth-Elektronik/150060YS75000?qs=LlUlMxKIyB0nKmwefHgtZw%3D%3D
footprint LEDC1608X80N
pins: 1 K, 2 A

## 150060YS75000_5
designator LED?, comment 150060YS75000
LED; Manufacturer_Name: Wurth Elektronik; Datasheet Link: http://uk.rs-online.com/web/p/products/8154219; Height: 0.8mm; Manufacturer_Part_Number: 150060YS75000; Mouser Part Number: 710-150060YS75000; Mouser Price/Stock: https://www.mouser.co.uk/ProductDetail/Wurth-Elektronik/150060YS75000?qs=LlUlMxKIyB0nKmwefHgtZw%3D%3D
footprint LEDC1608X80N
pins: 1 K, 2 A

## 150080VS75000
designator D?
Green 570nm LED Indication - Discrete 2V 0805 (2012 Metric); Manifacturer: Würth Elektronik; Supplier: Digi; 732-4986-6-ND
footprint LEDC2012X70N
pins: 1 K, 2 A

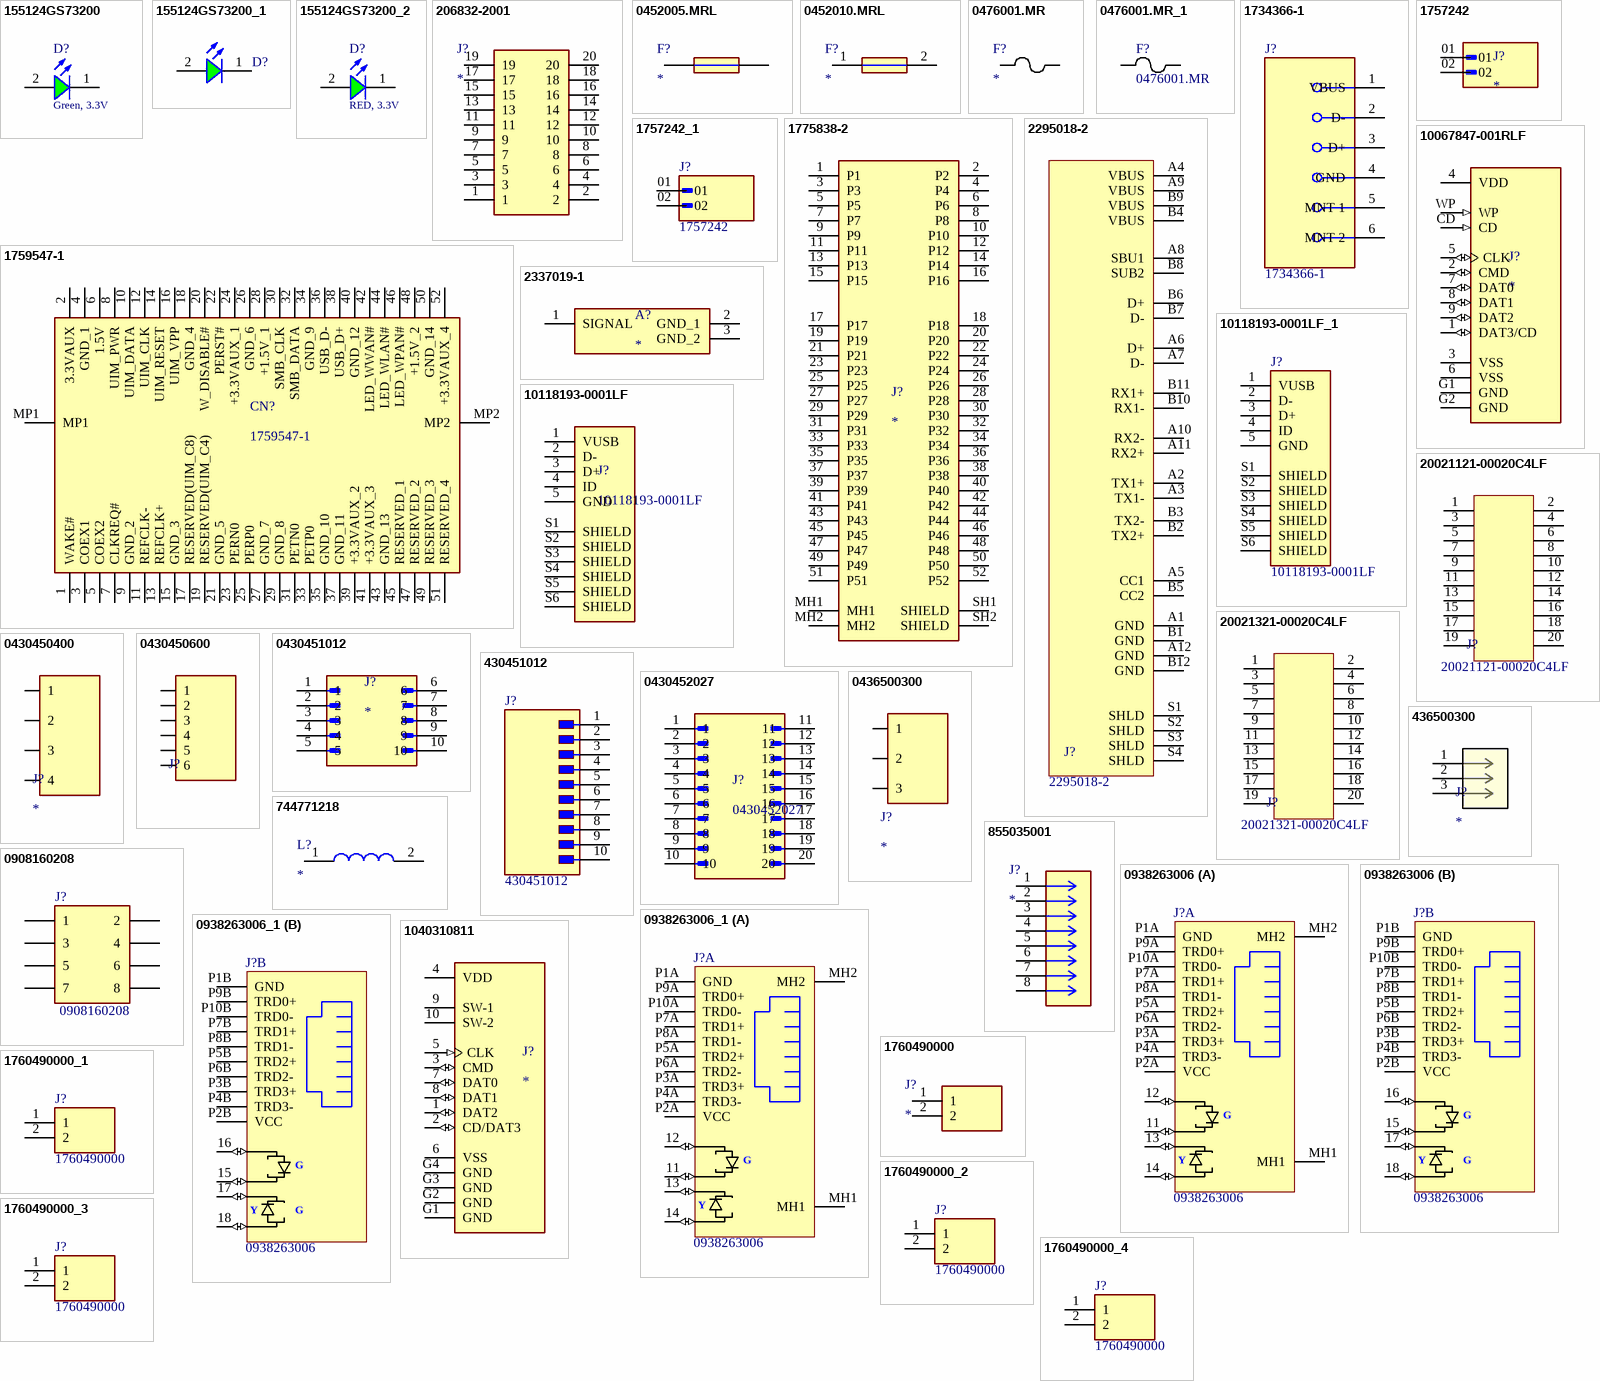
[diagram p2: symbols 155124GS73200 to 1760490000_4]

## 155124GS73200
designator D?, comment Green, 3.3V
WURTH ELEKTRONIK   155124GS73200   LED, 1204, GREEN, 600MCD, 525NM; Manufacturer: Wurth Electronics; Color: Yellow; Viewing Angle: 120°; Lens Style: Clear,Dome; Test Current: 20mA; Forward Current: 25mA; ComponentLink1Description: Manufacturer; ComponentLink1URL: http://www.we-online.de; ComponentLink2URL: https://www.we-online.com/catalog/datasheet/155124GS73200.pdf; ComponentLink2Description: Datasheet; Supplier 1: Digi-Key; Supplier Part Number 1: 732-5024-1-ND; Manufacturer Part Number: 155124GS73200; RoHS: Yes; Category: LEDs; Stock 1: 15068; Pricing 1: 1=0,45000, 50=0,41800, 100=0,35900, 500=0,28400 (USD); Mount: Surface Mount; Case/Package: 1204; Min Operating Temperature: -40°C; Max Operating Temperature: 85°C; Packaging: Tape and Reel; Luminous Intensity: 600mcd; Forward Voltage: 3.3V; Dominant Wavelength: 525nm; Package Quantity: 1; Wavelength: 525nm; Length: 3.2mm; Width: 1.5mm; Height: 1mm; RoHS Compliant: Yes; REACH SVHC: Unknown; ComponentLink3URL: https://datasheet.ciiva.com/29562/155124gs73200-29562964.pdf?src-supplier=Digi-Key; ComponentLink3Description: https://datasheet.ciiva.com/29562/155124gs73200-29562964.pdf?src-supplier=Digi-Key; ComponentLink4URL: https://datasheet.ciiva.com/29279/759456-da-01-en-smd-chipled-s-v-gruen-155124gs73200-29279079.pdf?src-supplier=Conrad; ComponentLink4Description: https://datasheet.ciiva.com/29279/759456-da-01-en-smd-chipled-s-v-gruen-155124gs73200-29279079.pdf?src-supplier=Conrad; ComponentLink5URL: https://datasheet.ciiva.com/29562/155124gs73200-29562965.pdf?src-supplier=Digi-Key; ComponentLink5Description: https://datasheet.ciiva.com/29562/155124gs73200-29562965.pdf?src-supplier=Digi-Key; ComponentLink6URL: https://datasheet.ciiva.com/48430/155124gs73200-eng-tds-48430069.pdf?src-supplier=Distrelec; ComponentLink6Description: https://datasheet.ciiva.com/48430/155124gs73200-eng-tds-48430069.pdf?src-supplier=Distrelec; ComponentLink7URL: https://datasheet.ciiva.com/29562/155124gs73200-29562966.pdf?src-supplier=Digi-Key; ComponentLink7Description: https://datasheet.ciiva.com/29562/155124gs73200-29562966.pdf?src-supplier=Digi-Key
footprint WL-SMSW_1204
pins: 1 K, 2 A

## 155124GS73200_1
designator D?, comment Green, 3.3V  (value not drawn)
Green 525nm LED Indication - Discrete 3.3V 2-SMD, Side View; Manufacturer Part Number: 155124GS73200
footprint WL-SMSW_1204
pins: 1 K, 2 A

## 155124GS73200_2
designator D?, comment RED, 3.3V
LED RED CLEAR 1204 SMD R/A; Manufacturer: Wurth Electronics; Manufacturer Part Number: 155124RS73200; Luminous Intensity: 130mcd; Viewing Angle: 120°; Forward Voltage: 2V; Lens Style: Clear,Dome; Dominant Wavelength: 624nm; Test Current: 20mA; Forward Current: 25mA; ComponentLink1Description: Manufacturer; ComponentLink1URL: http://www.we-online.de; ComponentLink2URL: https://www.we-online.com/catalog/datasheet/155124GS73200.pdf; ComponentLink2Description: Datasheet; ComponentLink3URL: https://datasheet.ciiva.com/29562/155124gs73200-29562964.pdf?src-supplier=Digi-Key; ComponentLink3Description: https://datasheet.ciiva.com/29562/155124gs73200-29562964.pdf?src-supplier=Digi-Key; ComponentLink4URL: https://datasheet.ciiva.com/29279/759456-da-01-en-smd-chipled-s-v-gruen-155124gs73200-29279079.pdf?src-supplier=Conrad; ComponentLink4Description: https://datasheet.ciiva.com/29279/759456-da-01-en-smd-chipled-s-v-gruen-155124gs73200-29279079.pdf?src-supplier=Conrad; ComponentLink5URL: https://datasheet.ciiva.com/29562/155124gs73200-29562965.pdf?src-supplier=Digi-Key; ComponentLink5Description: https://datasheet.ciiva.com/29562/155124gs73200-29562965.pdf?src-supplier=Digi-Key; ComponentLink6URL: https://datasheet.ciiva.com/48430/155124gs73200-eng-tds-48430069.pdf?src-supplier=Distrelec; ComponentLink6Description: https://datasheet.ciiva.com/48430/155124gs73200-eng-tds-48430069.pdf?src-supplier=Distrelec; ComponentLink7URL: https://datasheet.ciiva.com/29562/155124gs73200-29562966.pdf?src-supplier=Digi-Key; ComponentLink7Description: https://datasheet.ciiva.com/29562/155124gs73200-29562966.pdf?src-supplier=Digi-Key; Supplier 1: Digi-Key; Supplier Part Number 1: 732-5025-1-ND; RoHS: Yes; Category: LEDs; Pricing 1: 1=0,20000, 50=0,18300, 100=0,15800, 500=0,12500 (USD); Mount: Surface Mount; Case/Package: 1204; Color: Red; Min Operating Temperature: -40°C; Max Operating Temperature: 85°C; Packaging: Tape and Reel; Wavelength: 624nm; Package Quantity: 1; Length: 3.2mm; Width: 1.5mm; Height: 1mm; RoHS Compliant: Yes; REACH SVHC: Unknown; ComponentLink8URL: https://datasheet.ciiva.com/22657/155124rs73200-22657057.pdf?src-supplier=Element14; ComponentLink8Description: https://datasheet.ciiva.com/22657/155124rs73200-22657057.pdf?src-supplier=Element14; ComponentLink9URL: https://datasheet.ciiva.com/29278/759458-da-01-en-smd-chipled-s-v-rot-155124rs73200-29278943.pdf?src-supplier=Conrad; ComponentLink9Description: https://datasheet.ciiva.com/29278/759458-da-01-en-smd-chipled-s-v-rot-155124rs73200-29278943.pdf?src-supplier=Conrad; ComponentLink10URL: https://datasheet.ciiva.com/48430/155124rs73200-eng-tds-48430070.pdf?src-supplier=Distrelec; ComponentLink10Description: https://datasheet.ciiva.com/48430/155124rs73200-eng-tds-48430070.pdf?src-supplier=Distrelec; ComponentLink11URL: https://datasheet.ciiva.com/29563/155124rs73200-29563003.pdf?src-supplier=Digi-Key; ComponentLink11Description: https://datasheet.ciiva.com/29563/155124rs73200-29563003.pdf?src-supplier=Digi-Key; ComponentLink12URL: https://datasheet.ciiva.com/29563/155124rs73200-29563004.pdf?src-supplier=Digi-Key; ComponentLink12Description: https://datasheet.ciiva.com/29563/155124rs73200-29563004.pdf?src-supplier=Digi-Key; ComponentLink13URL: https://datasheet.ciiva.com/29563/155124rs73200-29563005.pdf?src-supplier=Digi-Key; ComponentLink13Description: https://datasheet.ciiva.com/29563/155124rs73200-29563005.pdf?src-supplier=Digi-Key
footprint WL-SMSW_1204
footprint WL-SMSW_1204 (SMD Mono-color Side view Waterclear, body 3.2x1.5mm)
pins: 1 K, 2 A

## 206832-2001
designator J?
Connector; Manufacturer_Name: Molex; Manufacturer_Part_Number: 206832-2001; Datasheet Link: https://componentsearchengine.com/Datasheets/1/206832-2001.pdf; Height: 10.16mm; Mouser Part Number: 538-206832-2001; Mouser Price/Stock: https://www.mouser.co.uk/ProductDetail/Molex/206832-2001?qs=EBDBlbfErPzJMeYzdBsXgA%3D%3D
footprint 2068322001
pins: 1, 2, 3, 4, 5, 6, 7, 8, 9, 10, 11, 12, 13, 14, 15, 16, 17, 18, 19, 20

## 0452005.MRL
designator F?
FUSE BRD MNT 5A 125VAC/VDC 2SMD; Manufacturer: Littelfuse; Supplier: Digi; F2607DKR-ND
footprint FUSC6127X294N
pins: 1, 2

## 0452010.MRL
designator F?
10 A 72 V 60 V Fuse Board Mount (Cartridge Style Excluded) Surface Mount 2-SMD, Square End Block; MPN: 0452010.MRL; Supplier: 18-0452010.MRLDKR-ND
footprint 0452010MRL
pins: 1, 2

## 0476001.MR
designator F?
No Description Available; Mfr_Name: Littelfuse Inc
footprint 0476Series_LTF
pins: 1, 2

## 0476001.MR_1
designator F?, comment 0476001.MR
No Description Available; Mfr_Name: Littelfuse Inc
footprint 0476Series_LTF
pins: 1, 2

## 1734366-1
designator J?, comment Manufacturer Part Number: 1734366-1  (hidden comment: CONN RCPT USB2.0 TYPEA 4POS VERT)
Type-A 1 Female 4 USB 2.0 Plugin USB Connectors ROHS; Order Code: LSCS:  C305910; LCSC Manufacturer Part Number: 1734366-1; LCSC Part Number: C305910
footprint Wurth_Electronics_614004135023_MFG
pins: 1 VBUS, 2 D-, 3 D+, 4 GND, 5 MNT 1, 6 MNT 2